# EAGLE library part AK4116 (library akm)
Digital Audio Receiver (DIR) Low Power, 24-Bit, 48 kHz
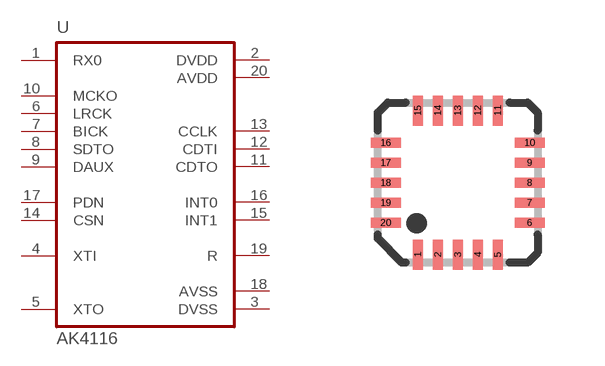
[diagram p6: symbol with the pads of QFN20; footprint QFN20]

Designator prefix U

## AK4116  [QFN20]
1  RX0  in
2  DVDD  pwr
3  DVSS  pwr
4  XTI  in
5  XTO  out
6  LRCK  out
7  BICK  out
8  SDTO  out
9  DAUX  in
10  MCKO  out
11  CDTO  out
12  CDTI  in
13  CCLK  in
14  CSN  in
15  INT1  out
16  INT0  out
17  PDN  in
18  AVSS  pwr
19  R  pas
20  AVDD  pwr

## Footprint QFN20 (pad centres in mm)
QFN20 4x4 mm, pitch 0.5 mm
smd 0.25 x 0.75: 1 -1,-1.8; 2 -0.5,-1.8; 3 0,-1.8; 4 0.5,-1.8; 5 1,-1.8; 11 1,1.8; 12 0.5,1.8; 13 0,1.8; 14 -0.5,1.8; 15 -1,1.8
smd 0.75 x 0.25: 6 1.8,-1; 7 1.8,-0.5; 8 1.8,0; 9 1.8,0.5; 10 1.8,1; 16 -1.8,1; 17 -1.8,0.5; 18 -1.8,0; 19 -1.8,-0.5; 20 -1.8,-1